# EAGLE library part SCHMITT_TRIGGER_NON_INVERTING (library LITTLEBITS140826)
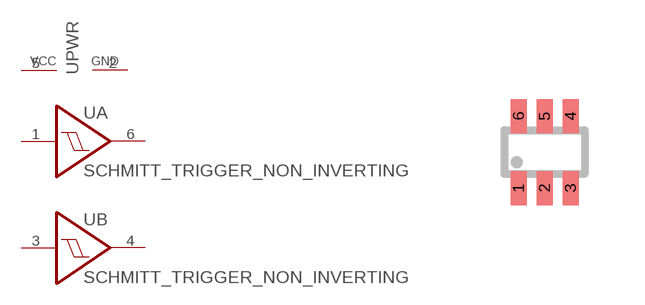
[diagram p22: symbol with the pads of SC70-6; footprint SC70-6]

Designator prefix -; gates A=SCHMITT_TRIGGER_NON_INVERTING B=SCHMITT_TRIGGER_NON_INVERTING PWR=POWERPINS

## SCHMITT_TRIGGER_NON_INVERTINGNC7WZ17  [SC70-6]
1  A:I  in
2  PWR:GND  pwr
3  B:I  in
4  B:O  out
5  PWR:VCC  pwr
6  A:O  out

## Footprint SC70-6 (pad centres in mm)
smd 0.4 x 0.85: 1 -0.65,-0.9; 2 0,-0.9; 3 0.65,-0.9; 4 0.65,0.9; 5 0,0.9; 6 -0.65,0.9